# EAGLE library part 6120XX235221_612040235221 (library con-wurth-board-header)
WR-BHD 2.54 mm Male Angled Box Header High Temperature KIND PROPERTIES: Pitch 2.54 mm Gender:Male MATERIAL PROPERTIES: Insulator Material:PA6T Insulator Flammability Rating UL94 V-0 Insulator Color:Black Contact Material :Copper Alloy Contact Plating :Gold Contact Type: Stamped GENERAL INFORMATION: Operating Temperature:-40 °C up to +125 °C Compliance:RoHS Working Voltage: 250 V (AC) Withstanding Voltage:500 V (AC) Contact Resistance: 20 mΩ Insulation Resistance:1000 MΩ PACKAGING PROPERTIES Packaging :Tray <https://www.we-online.de/katalog/media/o32907v209%20Family_WR-BHD_6120xx235221.jpg> Details see: https://www.we-online.de/katalog/en/em/BHD_2_54_MALE_ANGLED_BOX_HEADER_HIGH_TEMPERATURE_6120XX235221 Updated by Yingchun,Shan 2019-10-30 2019 (C) Würth Elektronik
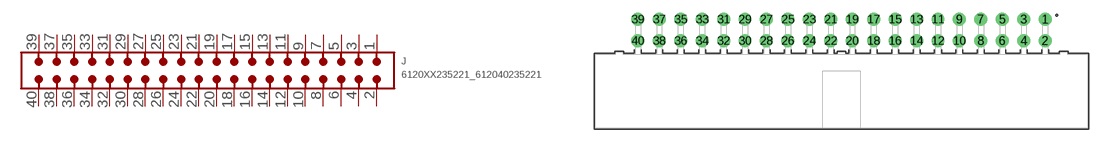
[diagram p176: symbol with the pads of 612040235221; footprint 612040235221]

Designator prefix J

## 6120XX235221_612040235221 (CONTACT-RESISTANCE: 20mOhm; DATASHEET-URL: https://www.we-online.com/redexpert/spec/612040235221?ae; GENDER: Male; IR: 3A; LENGTH: 58.4mm; MOUNT: THT; PACKAGING: Tray; PART-NUMBER: 612040235221; PINS: 40; PITCH: 2.54mm; TYPE: Angled; VALUE: 612040235221; WORKING-VOLTAGE: 250V(AC))  [612040235221]
1  1  pas
2  2  pas
3  3  pas
4  4  pas
5  5  pas
6  6  pas
7  7  pas
8  8  pas
9  9  pas
10  10  pas
11  11  pas
12  12  pas
13  13  pas
14  14  pas
15  15  pas
16  16  pas
17  17  pas
18  18  pas
19  19  pas
20  20  pas
21  21  pas
22  22  pas
23  23  pas
24  24  pas
25  25  pas
26  26  pas
27  27  pas
28  28  pas
29  29  pas
30  30  pas
31  31  pas
32  32  pas
33  33  pas
34  34  pas
35  35  pas
36  36  pas
37  37  pas
38  38  pas
39  39  pas
40  40  pas

## Footprint 612040235221 (pad centres in mm)
WR-BHD 2.54 mm Male Angled Box Header High Temperature,40 Pins
drill 1.02: 1 24.13,8.54; 2 24.13,6; 3 21.59,8.54; 4 21.59,6; 5 19.05,8.54; 6 19.05,6; 7 16.51,8.54; 8 16.51,6; 9 13.97,8.54; 10 13.97,6; 11 11.43,8.54; 12 11.43,6; 13 8.89,8.54; 14 8.89,6; 15 6.35,8.54; 16 6.35,6; 17 3.81,8.54; 18 3.81,6; 19 1.27,8.54; 20 1.27,6; 21 -1.27,8.54; 22 -1.27,6; 23 -3.81,8.54; 24 -3.81,6; 25 -6.35,8.54; 26 -6.35,6; 27 -8.89,8.54; 28 -8.89,6; 29 -11.43,8.54; 30 -11.43,6; 31 -13.97,8.54; 32 -13.97,6; 33 -16.51,8.54; 34 -16.51,6; 35 -19.05,8.54; 36 -19.05,6; 37 -21.59,8.54; 38 -21.59,6; 39 -24.13,8.54; 40 -24.13,6